# Altium integrated library adafruit.Library.IntLib: 666 symbols (part 2 of 6)
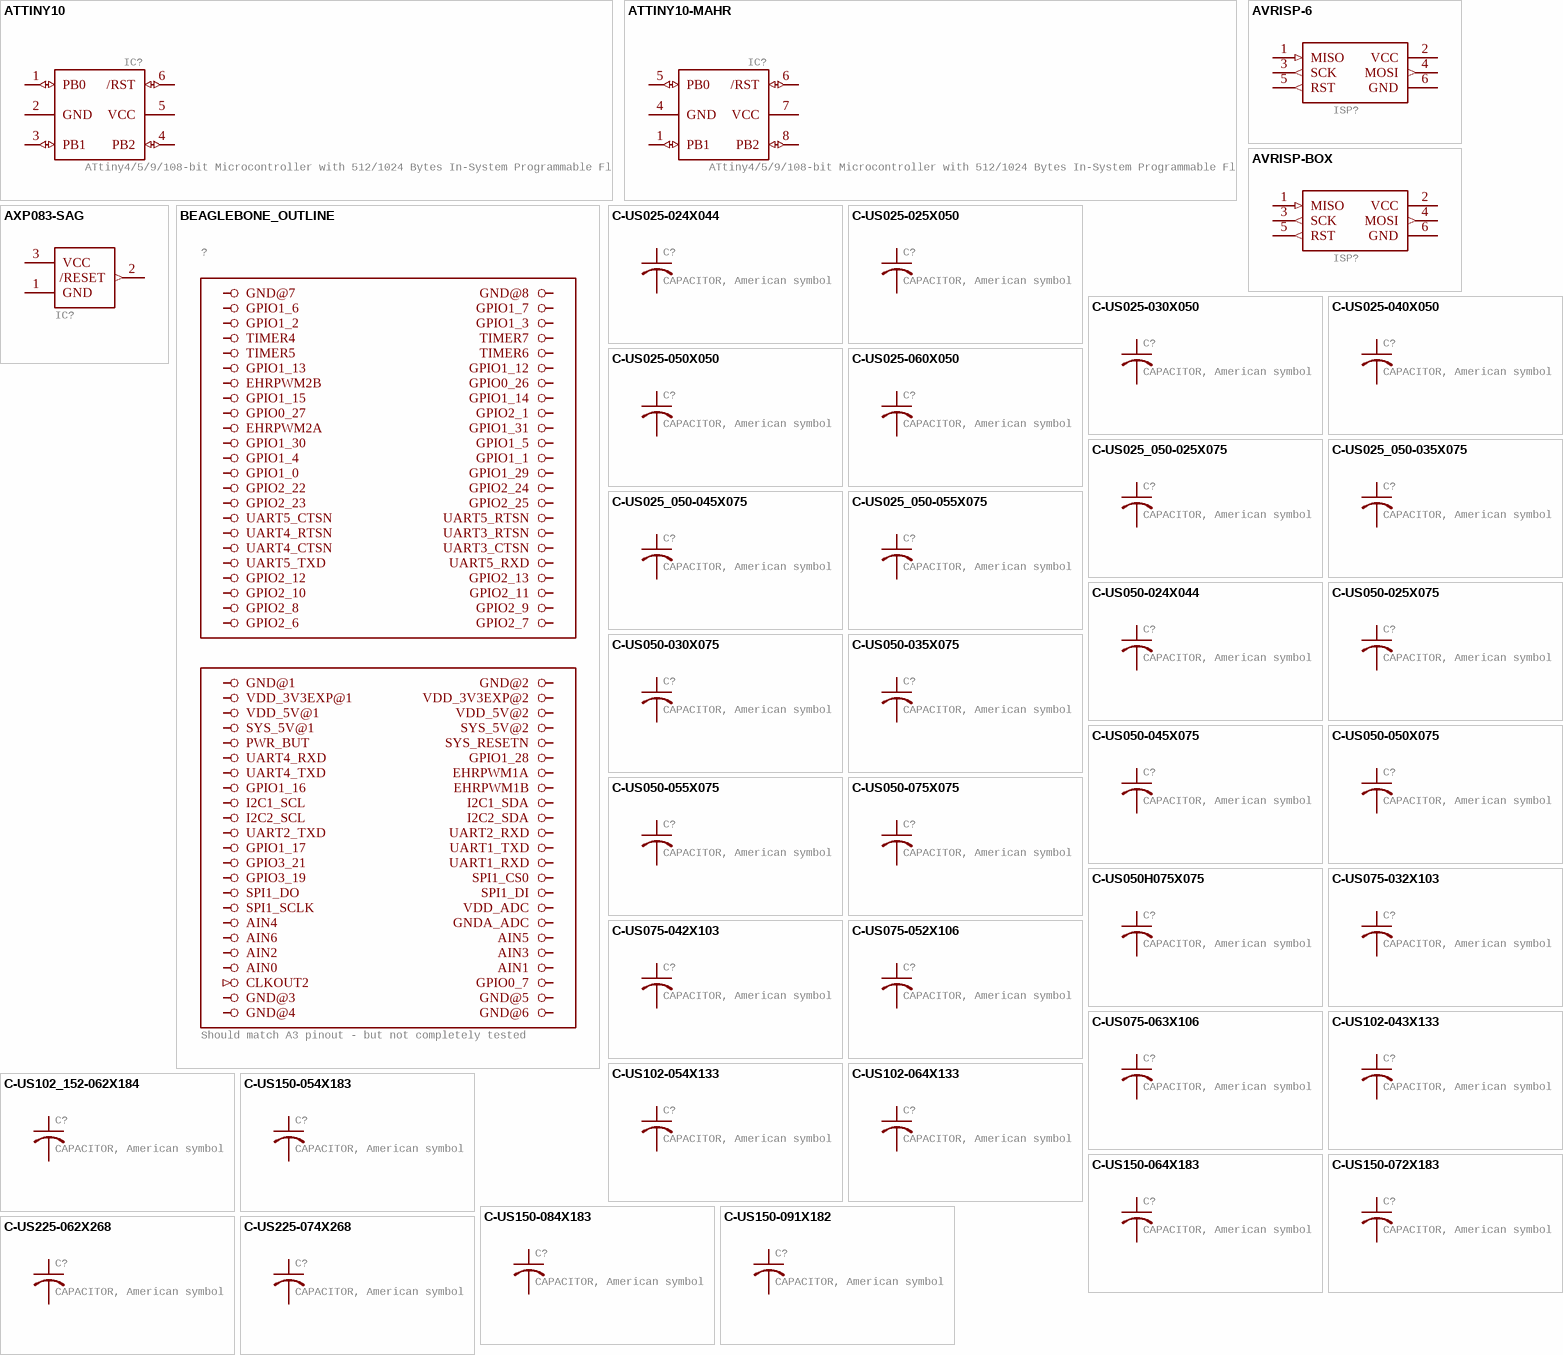
[diagram p28: symbols ATTINY10 to C-US225-074X268]

## C-US102-064X133
designator C?, comment CAPACITOR, American symbol
GateName_1: G$1; SymbolName_1: C-US; DeviceName: 102-064X133; LibraryName: adafruit; DeviceSetName: C-US; Package: C102-064X133
footprint C102-064X133
pins: 1, 2

## C-US102_152-062X184
designator C?, comment CAPACITOR, American symbol
GateName_1: G$1; SymbolName_1: C-US; DeviceName: 102_152-062X184; LibraryName: adafruit; DeviceSetName: C-US; Package: C102_152-062X184
footprint C102_152-062X184
pins: 1, 2

## C-US150-054X183
designator C?, comment CAPACITOR, American symbol
GateName_1: G$1; SymbolName_1: C-US; DeviceName: 150-054X183; LibraryName: adafruit; DeviceSetName: C-US; Package: C150-054X183
footprint C150-054X183
pins: 1, 2

## C-US150-064X183
designator C?, comment CAPACITOR, American symbol
GateName_1: G$1; SymbolName_1: C-US; DeviceName: 150-064X183; LibraryName: adafruit; DeviceSetName: C-US; Package: C150-064X183
footprint C150-064X183
pins: 1, 2

## C-US150-072X183
designator C?, comment CAPACITOR, American symbol
GateName_1: G$1; SymbolName_1: C-US; DeviceName: 150-072X183; LibraryName: adafruit; DeviceSetName: C-US; Package: C150-072X183
footprint C150-072X183
pins: 1, 2

## C-US150-084X183
designator C?, comment CAPACITOR, American symbol
GateName_1: G$1; SymbolName_1: C-US; DeviceName: 150-084X183; LibraryName: adafruit; DeviceSetName: C-US; Package: C150-084X183
footprint C150-084X183
pins: 1, 2

## C-US150-091X182
designator C?, comment CAPACITOR, American symbol
GateName_1: G$1; SymbolName_1: C-US; DeviceName: 150-091X182; LibraryName: adafruit; DeviceSetName: C-US; Package: C150-091X182
footprint C150-091X182
pins: 1, 2

## C-US225-062X268
designator C?, comment CAPACITOR, American symbol
GateName_1: G$1; SymbolName_1: C-US; DeviceName: 225-062X268; LibraryName: adafruit; DeviceSetName: C-US; Package: C225-062X268
footprint C225-062X268
pins: 1, 2

## C-US225-074X268
designator C?, comment CAPACITOR, American symbol
GateName_1: G$1; SymbolName_1: C-US; DeviceName: 225-074X268; LibraryName: adafruit; DeviceSetName: C-US; Package: C225-074X268
footprint C225-074X268
pins: 1, 2

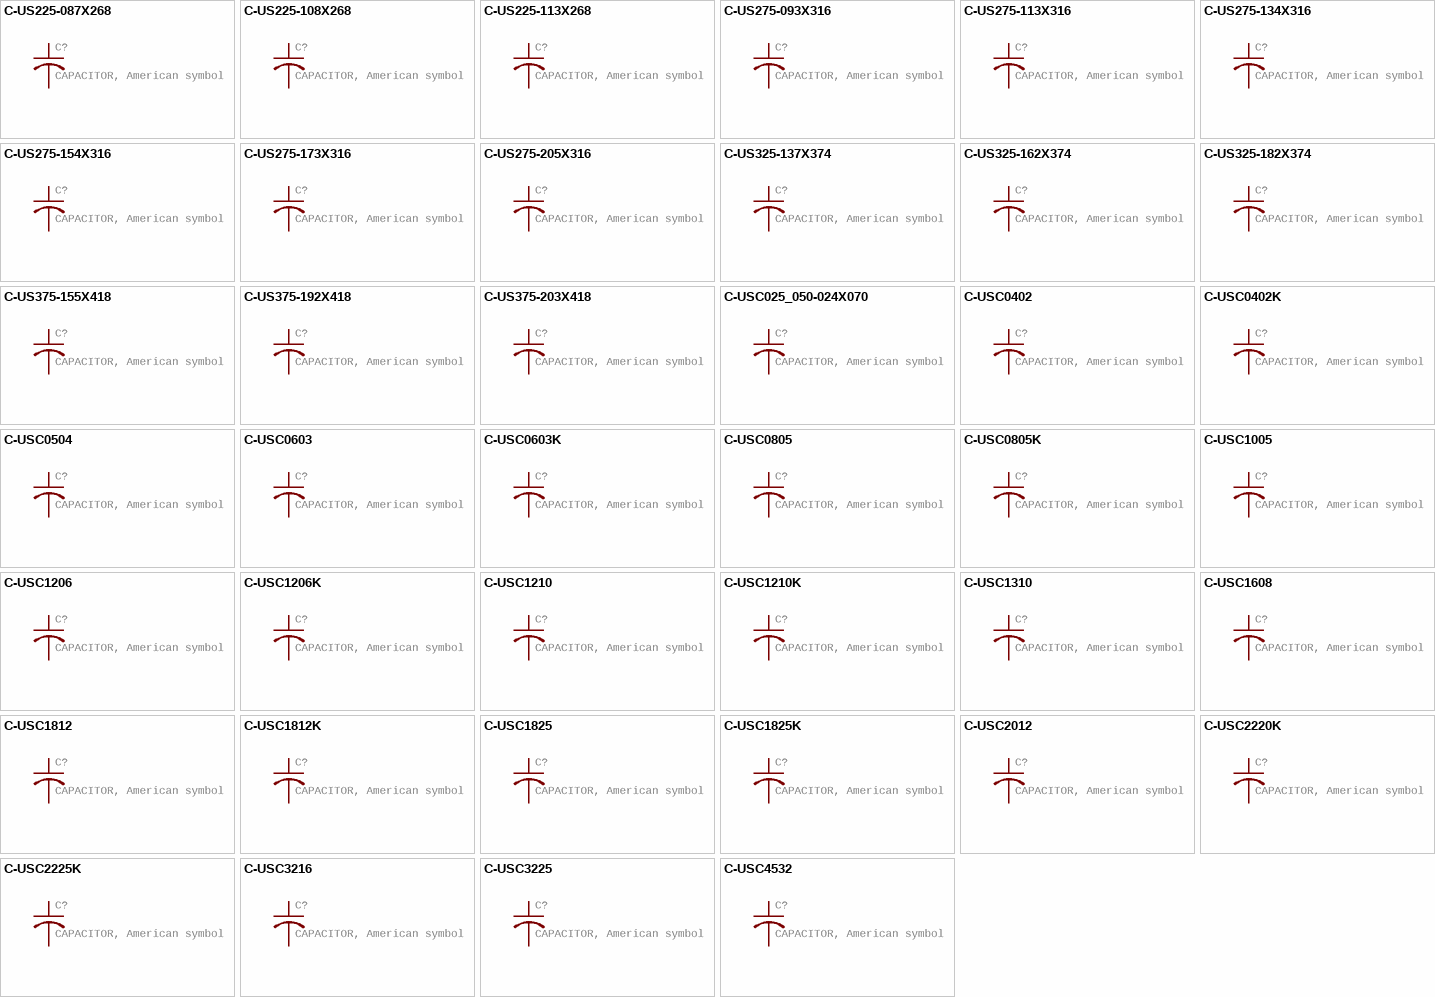
[diagram p9: symbols C-US225-087X268 to C-USC4532]

## C-US225-087X268
designator C?, comment CAPACITOR, American symbol
GateName_1: G$1; SymbolName_1: C-US; DeviceName: 225-087X268; LibraryName: adafruit; DeviceSetName: C-US; Package: C225-087X268
footprint C225-087X268
pins: 1, 2

## C-US225-108X268
designator C?, comment CAPACITOR, American symbol
GateName_1: G$1; SymbolName_1: C-US; DeviceName: 225-108X268; LibraryName: adafruit; DeviceSetName: C-US; Package: C225-108X268
footprint C225-108X268
pins: 1, 2

## C-US225-113X268
designator C?, comment CAPACITOR, American symbol
GateName_1: G$1; SymbolName_1: C-US; DeviceName: 225-113X268; LibraryName: adafruit; DeviceSetName: C-US; Package: C225-113X268
footprint C225-113X268
pins: 1, 2

## C-US275-093X316
designator C?, comment CAPACITOR, American symbol
GateName_1: G$1; SymbolName_1: C-US; DeviceName: 275-093X316; LibraryName: adafruit; DeviceSetName: C-US; Package: C275-093X316
footprint C275-093X316
pins: 1, 2

## C-US275-113X316
designator C?, comment CAPACITOR, American symbol
GateName_1: G$1; SymbolName_1: C-US; DeviceName: 275-113X316; LibraryName: adafruit; DeviceSetName: C-US; Package: C275-113X316
footprint C275-113X316
pins: 1, 2

## C-US275-134X316
designator C?, comment CAPACITOR, American symbol
GateName_1: G$1; SymbolName_1: C-US; DeviceName: 275-134X316; LibraryName: adafruit; DeviceSetName: C-US; Package: C275-134X316
footprint C275-134X316
pins: 1, 2

## C-US275-154X316
designator C?, comment CAPACITOR, American symbol
GateName_1: G$1; SymbolName_1: C-US; DeviceName: 275-154X316; LibraryName: adafruit; DeviceSetName: C-US; Package: C275-154X316
footprint C275-154X316
pins: 1, 2

## C-US275-173X316
designator C?, comment CAPACITOR, American symbol
GateName_1: G$1; SymbolName_1: C-US; DeviceName: 275-173X316; LibraryName: adafruit; DeviceSetName: C-US; Package: C275-173X316
footprint C275-173X316
pins: 1, 2

## C-US275-205X316
designator C?, comment CAPACITOR, American symbol
GateName_1: G$1; SymbolName_1: C-US; DeviceName: 275-205X316; LibraryName: adafruit; DeviceSetName: C-US; Package: C275-205X316
footprint C275-205X316
pins: 1, 2

## C-US325-137X374
designator C?, comment CAPACITOR, American symbol
GateName_1: G$1; SymbolName_1: C-US; DeviceName: 325-137X374; LibraryName: adafruit; DeviceSetName: C-US; Package: C325-137X374
footprint C325-137X374
pins: 1, 2

## C-US325-162X374
designator C?, comment CAPACITOR, American symbol
GateName_1: G$1; SymbolName_1: C-US; DeviceName: 325-162X374; LibraryName: adafruit; DeviceSetName: C-US; Package: C325-162X374
footprint C325-162X374
pins: 1, 2

## C-US325-182X374
designator C?, comment CAPACITOR, American symbol
GateName_1: G$1; SymbolName_1: C-US; DeviceName: 325-182X374; LibraryName: adafruit; DeviceSetName: C-US; Package: C325-182X374
footprint C325-182X374
pins: 1, 2

## C-US375-155X418
designator C?, comment CAPACITOR, American symbol
GateName_1: G$1; SymbolName_1: C-US; DeviceName: 375-155X418; LibraryName: adafruit; DeviceSetName: C-US; Package: C375-155X418
footprint C375-155X418
pins: 1, 2

## C-US375-192X418
designator C?, comment CAPACITOR, American symbol
GateName_1: G$1; SymbolName_1: C-US; DeviceName: 375-192X418; LibraryName: adafruit; DeviceSetName: C-US; Package: C375-192X418
footprint C375-192X418
pins: 1, 2

## C-US375-203X418
designator C?, comment CAPACITOR, American symbol
GateName_1: G$1; SymbolName_1: C-US; DeviceName: 375-203X418; LibraryName: adafruit; DeviceSetName: C-US; Package: C375-203X418
footprint C375-203X418
pins: 1, 2

## C-USC025_050-024X070
designator C?, comment CAPACITOR, American symbol
GateName_1: G$1; SymbolName_1: C-US; DeviceName: C025_050-024X070; LibraryName: adafruit; DeviceSetName: C-US; Package: C025_050-024X070
footprint C025_050-024X070
pins: 1, 2

## C-USC0402
designator C?, comment CAPACITOR, American symbol
GateName_1: G$1; SymbolName_1: C-US; DeviceName: C0402; LibraryName: adafruit; DeviceSetName: C-US; Package: C0402
footprint C0402
pins: 1, 2

## C-USC0402K
designator C?, comment CAPACITOR, American symbol
GateName_1: G$1; SymbolName_1: C-US; DeviceName: C0402K; LibraryName: adafruit; DeviceSetName: C-US; Package: C0402K
footprint C0402K
pins: 1, 2

## C-USC0504
designator C?, comment CAPACITOR, American symbol
GateName_1: G$1; SymbolName_1: C-US; DeviceName: C0504; LibraryName: adafruit; DeviceSetName: C-US; Package: C0504
footprint C0504
pins: 1, 2

## C-USC0603
designator C?, comment CAPACITOR, American symbol
GateName_1: G$1; SymbolName_1: C-US; DeviceName: C0603; LibraryName: adafruit; DeviceSetName: C-US; Package: C0603
footprint C0603
pins: 1, 2

## C-USC0603K
designator C?, comment CAPACITOR, American symbol
GateName_1: G$1; SymbolName_1: C-US; DeviceName: C0603K; LibraryName: adafruit; DeviceSetName: C-US; Package: C0603K
footprint C0603K
pins: 1, 2

## C-USC0805
designator C?, comment CAPACITOR, American symbol
GateName_1: G$1; SymbolName_1: C-US; DeviceName: C0805; LibraryName: adafruit; DeviceSetName: C-US; Package: C0805
footprint C0805
pins: 1, 2

## C-USC0805K
designator C?, comment CAPACITOR, American symbol
GateName_1: G$1; SymbolName_1: C-US; DeviceName: C0805K; LibraryName: adafruit; DeviceSetName: C-US; Package: C0805K
footprint C0805K
pins: 1, 2

## C-USC1005
designator C?, comment CAPACITOR, American symbol
GateName_1: G$1; SymbolName_1: C-US; DeviceName: C1005; LibraryName: adafruit; DeviceSetName: C-US; Package: C1005
footprint C1005
pins: 1, 2

## C-USC1206
designator C?, comment CAPACITOR, American symbol
GateName_1: G$1; SymbolName_1: C-US; DeviceName: C1206; LibraryName: adafruit; DeviceSetName: C-US; Package: C1206
footprint C1206
pins: 1, 2

## C-USC1206K
designator C?, comment CAPACITOR, American symbol
GateName_1: G$1; SymbolName_1: C-US; DeviceName: C1206K; LibraryName: adafruit; DeviceSetName: C-US; Package: C1206K
footprint C1206K
pins: 1, 2

## C-USC1210
designator C?, comment CAPACITOR, American symbol
GateName_1: G$1; SymbolName_1: C-US; DeviceName: C1210; LibraryName: adafruit; DeviceSetName: C-US; Package: C1210
footprint C1210
pins: 1, 2

## C-USC1210K
designator C?, comment CAPACITOR, American symbol
GateName_1: G$1; SymbolName_1: C-US; DeviceName: C1210K; LibraryName: adafruit; DeviceSetName: C-US; Package: C1210K
footprint C1210K
pins: 1, 2

## C-USC1310
designator C?, comment CAPACITOR, American symbol
GateName_1: G$1; SymbolName_1: C-US; DeviceName: C1310; LibraryName: adafruit; DeviceSetName: C-US; Package: C1310
footprint C1310
pins: 1, 2

## C-USC1608
designator C?, comment CAPACITOR, American symbol
GateName_1: G$1; SymbolName_1: C-US; DeviceName: C1608; LibraryName: adafruit; DeviceSetName: C-US; Package: C1608
footprint C1608
pins: 1, 2

## C-USC1812
designator C?, comment CAPACITOR, American symbol
GateName_1: G$1; SymbolName_1: C-US; DeviceName: C1812; LibraryName: adafruit; DeviceSetName: C-US; Package: C1812
footprint C1812
pins: 1, 2

## C-USC1812K
designator C?, comment CAPACITOR, American symbol
GateName_1: G$1; SymbolName_1: C-US; DeviceName: C1812K; LibraryName: adafruit; DeviceSetName: C-US; Package: C1812K
footprint C1812K
pins: 1, 2

## C-USC1825
designator C?, comment CAPACITOR, American symbol
GateName_1: G$1; SymbolName_1: C-US; DeviceName: C1825; LibraryName: adafruit; DeviceSetName: C-US; Package: C1825
footprint C1825
pins: 1, 2

## C-USC1825K
designator C?, comment CAPACITOR, American symbol
GateName_1: G$1; SymbolName_1: C-US; DeviceName: C1825K; LibraryName: adafruit; DeviceSetName: C-US; Package: C1825K
footprint C1825K
pins: 1, 2

## C-USC2012
designator C?, comment CAPACITOR, American symbol
GateName_1: G$1; SymbolName_1: C-US; DeviceName: C2012; LibraryName: adafruit; DeviceSetName: C-US; Package: C2012
footprint C2012
pins: 1, 2

## C-USC2220K
designator C?, comment CAPACITOR, American symbol
GateName_1: G$1; SymbolName_1: C-US; DeviceName: C2220K; LibraryName: adafruit; DeviceSetName: C-US; Package: C2220K
footprint C2220K
pins: 1, 2

## C-USC2225K
designator C?, comment CAPACITOR, American symbol
GateName_1: G$1; SymbolName_1: C-US; DeviceName: C2225K; LibraryName: adafruit; DeviceSetName: C-US; Package: C2225K
footprint C2225K
pins: 1, 2

## C-USC3216
designator C?, comment CAPACITOR, American symbol
GateName_1: G$1; SymbolName_1: C-US; DeviceName: C3216; LibraryName: adafruit; DeviceSetName: C-US; Package: C3216
footprint C3216
pins: 1, 2

## C-USC3225
designator C?, comment CAPACITOR, American symbol
GateName_1: G$1; SymbolName_1: C-US; DeviceName: C3225; LibraryName: adafruit; DeviceSetName: C-US; Package: C3225
footprint C3225
pins: 1, 2

## C-USC4532
designator C?, comment CAPACITOR, American symbol
GateName_1: G$1; SymbolName_1: C-US; DeviceName: C4532; LibraryName: adafruit; DeviceSetName: C-US; Package: C4532
footprint C4532
pins: 1, 2

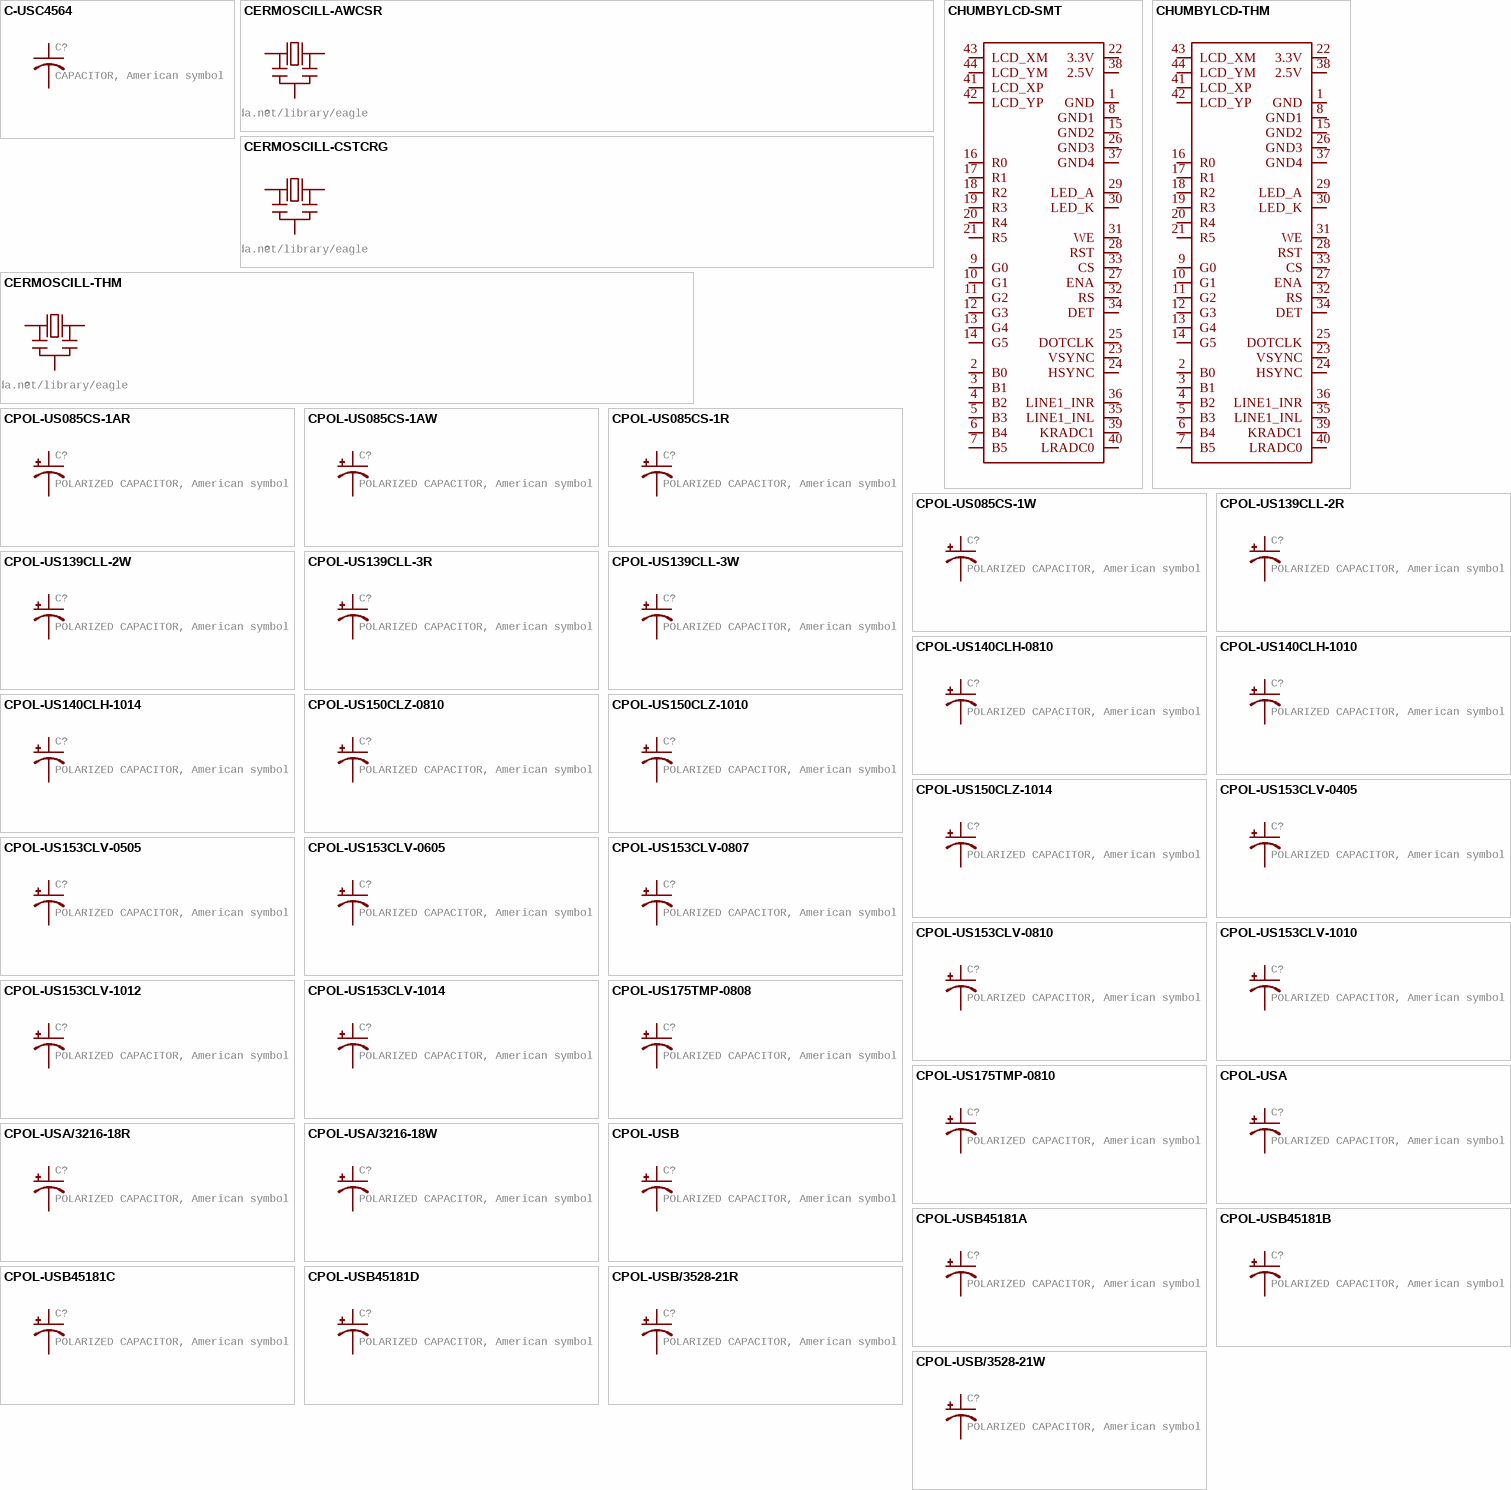
[diagram p10: symbols C-USC4564 to CPOL-USB/3528-21W]

## C-USC4564
designator C?, comment CAPACITOR, American symbol
GateName_1: G$1; SymbolName_1: C-US; DeviceName: C4564; LibraryName: adafruit; DeviceSetName: C-US; Package: C4564
footprint C4564
pins: 1, 2

## CERMOSCILL-AWCSR
designator ?, comment Ceramic oscillator with built in capacitors such as ZTT-12MHz    http://www.ladyada.net/library/eagle
GateName_1: G$1; SymbolName_1: CAPOSC; DeviceName: -AWCSR; DeviceSetName: CERMOSCILL; LibraryName: adafruit; Package: AWCSR
footprint AWCSR
pins: 1 IN (io), 2 GND (io), 3 OUT (io)

## CERMOSCILL-CSTCRG
designator ?, comment Ceramic oscillator with built in capacitors such as ZTT-12MHz    http://www.ladyada.net/library/eagle
GateName_1: G$1; SymbolName_1: CAPOSC; DeviceName: -CSTCRG; DeviceSetName: CERMOSCILL; LibraryName: adafruit; Package: CSTCR-G
footprint CSTCR-G
pins: 1 IN (io), 2 GND (io), 3 OUT (io)

## CERMOSCILL-THM
designator ?, comment Ceramic oscillator with built in capacitors such as ZTT-12MHz    http://www.ladyada.net/library/eagle
GateName_1: G$1; SymbolName_1: CAPOSC; DeviceName: -THM; DeviceSetName: CERMOSCILL; LibraryName: adafruit; Package: CERM_OSC
footprint CERM_OSC
pins: P$1 IN (io), P$2 GND (io), P$3 OUT (io)

## CHUMBYLCD-SMT
designator ?
GateName_1: G$1; SymbolName_1: CHUMBYVIDEO; DeviceName: -SMT; DeviceSetName: CHUMBYLCD; LibraryName: adafruit; Package: 2X22-SMT
footprint 2X22-SMT
pins: 1 GND (io), 2 B0 (io), 3 B1 (io), 4 B2 (io), 5 B3 (io), 6 B4 (io), 7 B5 (io), 8 GND1 (io), 9 G0 (io), 10 G1 (io), 11 G2 (io), 12 G3 (io), 13 G4 (io), 14 G5 (io), 15 GND2 (io), 16 R0 (io), 17 R1 (io), 18 R2 (io), 19 R3 (io), 20 R4 (io), 21 R5 (io), 22 3.3V (io), 23 VSYNC (io), 24 HSYNC (io), 25 DOTCLK (io), 26 GND3 (io), 27 ENA (io), 28 RST (io), 29 LED_A (io), 30 LED_K (io), 31 WE (io), 32 RS (io), 33 CS (io), 34 DET (io), 35 LINE1_INL (io), 36 LINE1_INR (io), 37 GND4 (io), 38 2.5V (io), 39 KRADC1 (io), 40 LRADC0 (io), 41 LCD_XP (io), 42 LCD_YP (io), 43 LCD_XM (io), 44 LCD_YM (io)

## CHUMBYLCD-THM
designator ?
GateName_1: G$1; SymbolName_1: CHUMBYVIDEO; DeviceName: -THM; DeviceSetName: CHUMBYLCD; LibraryName: adafruit; Package: 2X22
footprint 2X22
pins: 1 GND (io), 2 B0 (io), 3 B1 (io), 4 B2 (io), 5 B3 (io), 6 B4 (io), 7 B5 (io), 8 GND1 (io), 9 G0 (io), 10 G1 (io), 11 G2 (io), 12 G3 (io), 13 G4 (io), 14 G5 (io), 15 GND2 (io), 16 R0 (io), 17 R1 (io), 18 R2 (io), 19 R3 (io), 20 R4 (io), 21 R5 (io), 22 3.3V (io), 23 VSYNC (io), 24 HSYNC (io), 25 DOTCLK (io), 26 GND3 (io), 27 ENA (io), 28 RST (io), 29 LED_A (io), 30 LED_K (io), 31 WE (io), 32 RS (io), 33 CS (io), 34 DET (io), 35 LINE1_INL (io), 36 LINE1_INR (io), 37 GND4 (io), 38 2.5V (io), 39 KRADC1 (io), 40 LRADC0 (io), 41 LCD_XP (io), 42 LCD_YP (io), 43 LCD_XM (io), 44 LCD_YM (io)

## CPOL-US085CS-1AR
designator C?, comment POLARIZED CAPACITOR, American symbol
GateName_1: G$1; SymbolName_1: CPOL-US; DeviceName: 085CS-1AR; LibraryName: adafruit; DeviceSetName: CPOL-US; Package: 085CS_1AR
footprint 085CS_1AR
pins: +, -

## CPOL-US085CS-1AW
designator C?, comment POLARIZED CAPACITOR, American symbol
GateName_1: G$1; SymbolName_1: CPOL-US; DeviceName: 085CS-1AW; LibraryName: adafruit; DeviceSetName: CPOL-US; Package: 085CS_1AW
footprint 085CS_1AW
pins: +, -

## CPOL-US085CS-1R
designator C?, comment POLARIZED CAPACITOR, American symbol
GateName_1: G$1; SymbolName_1: CPOL-US; DeviceName: 085CS-1R; LibraryName: adafruit; DeviceSetName: CPOL-US; Package: 085CS_1R
footprint 085CS_1R
pins: +, -

## CPOL-US085CS-1W
designator C?, comment POLARIZED CAPACITOR, American symbol
GateName_1: G$1; SymbolName_1: CPOL-US; DeviceName: 085CS-1W; LibraryName: adafruit; DeviceSetName: CPOL-US; Package: 085CS_1W
footprint 085CS_1W
pins: +, -

## CPOL-US139CLL-2R
designator C?, comment POLARIZED CAPACITOR, American symbol
GateName_1: G$1; SymbolName_1: CPOL-US; DeviceName: 139CLL-2R; LibraryName: adafruit; DeviceSetName: CPOL-US; Package: 139CLL-2R
footprint 139CLL-2R
pins: +, -

## CPOL-US139CLL-2W
designator C?, comment POLARIZED CAPACITOR, American symbol
GateName_1: G$1; SymbolName_1: CPOL-US; DeviceName: 139CLL-2W; LibraryName: adafruit; DeviceSetName: CPOL-US; Package: 139CLL-2W
footprint 139CLL-2W
pins: +, -

## CPOL-US139CLL-3R
designator C?, comment POLARIZED CAPACITOR, American symbol
GateName_1: G$1; SymbolName_1: CPOL-US; DeviceName: 139CLL-3R; LibraryName: adafruit; DeviceSetName: CPOL-US; Package: 139CLL-3R
footprint 139CLL-3R
pins: +, -

## CPOL-US139CLL-3W
designator C?, comment POLARIZED CAPACITOR, American symbol
GateName_1: G$1; SymbolName_1: CPOL-US; DeviceName: 139CLL-3W; LibraryName: adafruit; DeviceSetName: CPOL-US; Package: 139CLL-3W
footprint 139CLL-3W
pins: +, -

## CPOL-US140CLH-0810
designator C?, comment POLARIZED CAPACITOR, American symbol
GateName_1: G$1; SymbolName_1: CPOL-US; DeviceName: 140CLH-0810; LibraryName: adafruit; DeviceSetName: CPOL-US; Package: 140CLH-0810
footprint 140CLH-0810
pins: +, -

## CPOL-US140CLH-1010
designator C?, comment POLARIZED CAPACITOR, American symbol
GateName_1: G$1; SymbolName_1: CPOL-US; DeviceName: 140CLH-1010; LibraryName: adafruit; DeviceSetName: CPOL-US; Package: 140CLH-1010
footprint 140CLH-1010
pins: +, -

## CPOL-US140CLH-1014
designator C?, comment POLARIZED CAPACITOR, American symbol
GateName_1: G$1; SymbolName_1: CPOL-US; DeviceName: 140CLH-1014; LibraryName: adafruit; DeviceSetName: CPOL-US; Package: 140CLH-1014
footprint 140CLH-1014
pins: +, -

## CPOL-US150CLZ-0810
designator C?, comment POLARIZED CAPACITOR, American symbol
GateName_1: G$1; SymbolName_1: CPOL-US; DeviceName: 150CLZ-0810; LibraryName: adafruit; DeviceSetName: CPOL-US; Package: 150CLZ-0810
footprint 150CLZ-0810
pins: +, -

## CPOL-US150CLZ-1010
designator C?, comment POLARIZED CAPACITOR, American symbol
GateName_1: G$1; SymbolName_1: CPOL-US; DeviceName: 150CLZ-1010; LibraryName: adafruit; DeviceSetName: CPOL-US; Package: 150CLZ-1010
footprint 150CLZ-1010
pins: +, -

## CPOL-US150CLZ-1014
designator C?, comment POLARIZED CAPACITOR, American symbol
GateName_1: G$1; SymbolName_1: CPOL-US; DeviceName: 150CLZ-1014; LibraryName: adafruit; DeviceSetName: CPOL-US; Package: 150CLZ-1014
footprint 150CLZ-1014
pins: +, -

## CPOL-US153CLV-0405
designator C?, comment POLARIZED CAPACITOR, American symbol
GateName_1: G$1; SymbolName_1: CPOL-US; DeviceName: 153CLV-0405; LibraryName: adafruit; DeviceSetName: CPOL-US; Package: 153CLV-0405
footprint 153CLV-0405
pins: +, -

## CPOL-US153CLV-0505
designator C?, comment POLARIZED CAPACITOR, American symbol
GateName_1: G$1; SymbolName_1: CPOL-US; DeviceName: 153CLV-0505; LibraryName: adafruit; DeviceSetName: CPOL-US; Package: 153CLV-0505
footprint 153CLV-0505
pins: +, -

## CPOL-US153CLV-0605
designator C?, comment POLARIZED CAPACITOR, American symbol
GateName_1: G$1; SymbolName_1: CPOL-US; DeviceName: 153CLV-0605; LibraryName: adafruit; DeviceSetName: CPOL-US; Package: 153CLV-0605
footprint 153CLV-0605
pins: +, -

## CPOL-US153CLV-0807
designator C?, comment POLARIZED CAPACITOR, American symbol
GateName_1: G$1; SymbolName_1: CPOL-US; DeviceName: 153CLV-0807; LibraryName: adafruit; DeviceSetName: CPOL-US; Package: 153CLV-0807
footprint 153CLV-0807
pins: +, -

## CPOL-US153CLV-0810
designator C?, comment POLARIZED CAPACITOR, American symbol
GateName_1: G$1; SymbolName_1: CPOL-US; DeviceName: 153CLV-0810; LibraryName: adafruit; DeviceSetName: CPOL-US; Package: 153CLV-0810
footprint 153CLV-0810
pins: +, -

## CPOL-US153CLV-1010
designator C?, comment POLARIZED CAPACITOR, American symbol
GateName_1: G$1; SymbolName_1: CPOL-US; DeviceName: 153CLV-1010; LibraryName: adafruit; DeviceSetName: CPOL-US; Package: 153CLV-1010
footprint 153CLV-1010
pins: +, -

## CPOL-US153CLV-1012
designator C?, comment POLARIZED CAPACITOR, American symbol
GateName_1: G$1; SymbolName_1: CPOL-US; DeviceName: 153CLV-1012; LibraryName: adafruit; DeviceSetName: CPOL-US; Package: 153CLV-1012
footprint 153CLV-1012
pins: +, -

## CPOL-US153CLV-1014
designator C?, comment POLARIZED CAPACITOR, American symbol
GateName_1: G$1; SymbolName_1: CPOL-US; DeviceName: 153CLV-1014; LibraryName: adafruit; DeviceSetName: CPOL-US; Package: 153CLV-1014
footprint 153CLV-1014
pins: +, -

## CPOL-US175TMP-0808
designator C?, comment POLARIZED CAPACITOR, American symbol
GateName_1: G$1; SymbolName_1: CPOL-US; DeviceName: 175TMP-0808; LibraryName: adafruit; DeviceSetName: CPOL-US; Package: 175TMP-0808
footprint 175TMP-0808
pins: +, -

## CPOL-US175TMP-0810
designator C?, comment POLARIZED CAPACITOR, American symbol
GateName_1: G$1; SymbolName_1: CPOL-US; DeviceName: 175TMP-0810; LibraryName: adafruit; DeviceSetName: CPOL-US; Package: 175TMP-0810
footprint 175TMP-0810
pins: +, -

## CPOL-USA
designator C?, comment POLARIZED CAPACITOR, American symbol
GateName_1: G$1; SymbolName_1: CPOL-US; DeviceName: A; LibraryName: adafruit; DeviceSetName: CPOL-US; Package: PANASONIC_A
footprint PANASONIC_A
pins: +, -

## CPOL-USA/3216-18R
designator C?, comment POLARIZED CAPACITOR, American symbol
GateName_1: G$1; SymbolName_1: CPOL-US; DeviceName: A/3216-18R; LibraryName: adafruit; DeviceSetName: CPOL-US; Package: A/3216-18R
footprint A/3216-18R
pins: +, -

## CPOL-USA/3216-18W
designator C?, comment POLARIZED CAPACITOR, American symbol
GateName_1: G$1; SymbolName_1: CPOL-US; DeviceName: A/3216-18W; LibraryName: adafruit; DeviceSetName: CPOL-US; Package: A/3216-18W
footprint A/3216-18W
pins: +, -

## CPOL-USB
designator C?, comment POLARIZED CAPACITOR, American symbol
GateName_1: G$1; SymbolName_1: CPOL-US; DeviceName: B; LibraryName: adafruit; DeviceSetName: CPOL-US; Package: PANASONIC_B
footprint PANASONIC_B
pins: +, -

## CPOL-USB45181A
designator C?, comment POLARIZED CAPACITOR, American symbol
GateName_1: G$1; SymbolName_1: CPOL-US; DeviceName: B45181A; LibraryName: adafruit; DeviceSetName: CPOL-US; Package: B45181A
footprint B45181A
pins: +, -

## CPOL-USB45181B
designator C?, comment POLARIZED CAPACITOR, American symbol
GateName_1: G$1; SymbolName_1: CPOL-US; DeviceName: B45181B; LibraryName: adafruit; DeviceSetName: CPOL-US; Package: B45181B
footprint B45181B
pins: +, -

## CPOL-USB45181C
designator C?, comment POLARIZED CAPACITOR, American symbol
GateName_1: G$1; SymbolName_1: CPOL-US; DeviceName: B45181C; LibraryName: adafruit; DeviceSetName: CPOL-US; Package: B45181C
footprint B45181C
pins: +, -

## CPOL-USB45181D
designator C?, comment POLARIZED CAPACITOR, American symbol
GateName_1: G$1; SymbolName_1: CPOL-US; DeviceName: B45181D; LibraryName: adafruit; DeviceSetName: CPOL-US; Package: B45181D
footprint B45181D
pins: +, -

## CPOL-USB/3528-21R
designator C?, comment POLARIZED CAPACITOR, American symbol
GateName_1: G$1; SymbolName_1: CPOL-US; DeviceName: B/3528-21R; LibraryName: adafruit; DeviceSetName: CPOL-US; Package: B/3528-21R
footprint B/3528-21R
pins: +, -

## CPOL-USB/3528-21W
designator C?, comment POLARIZED CAPACITOR, American symbol
GateName_1: G$1; SymbolName_1: CPOL-US; DeviceName: B/3528-21W; LibraryName: adafruit; DeviceSetName: CPOL-US; Package: B/3528-21W
footprint B/3528-21W
pins: +, -

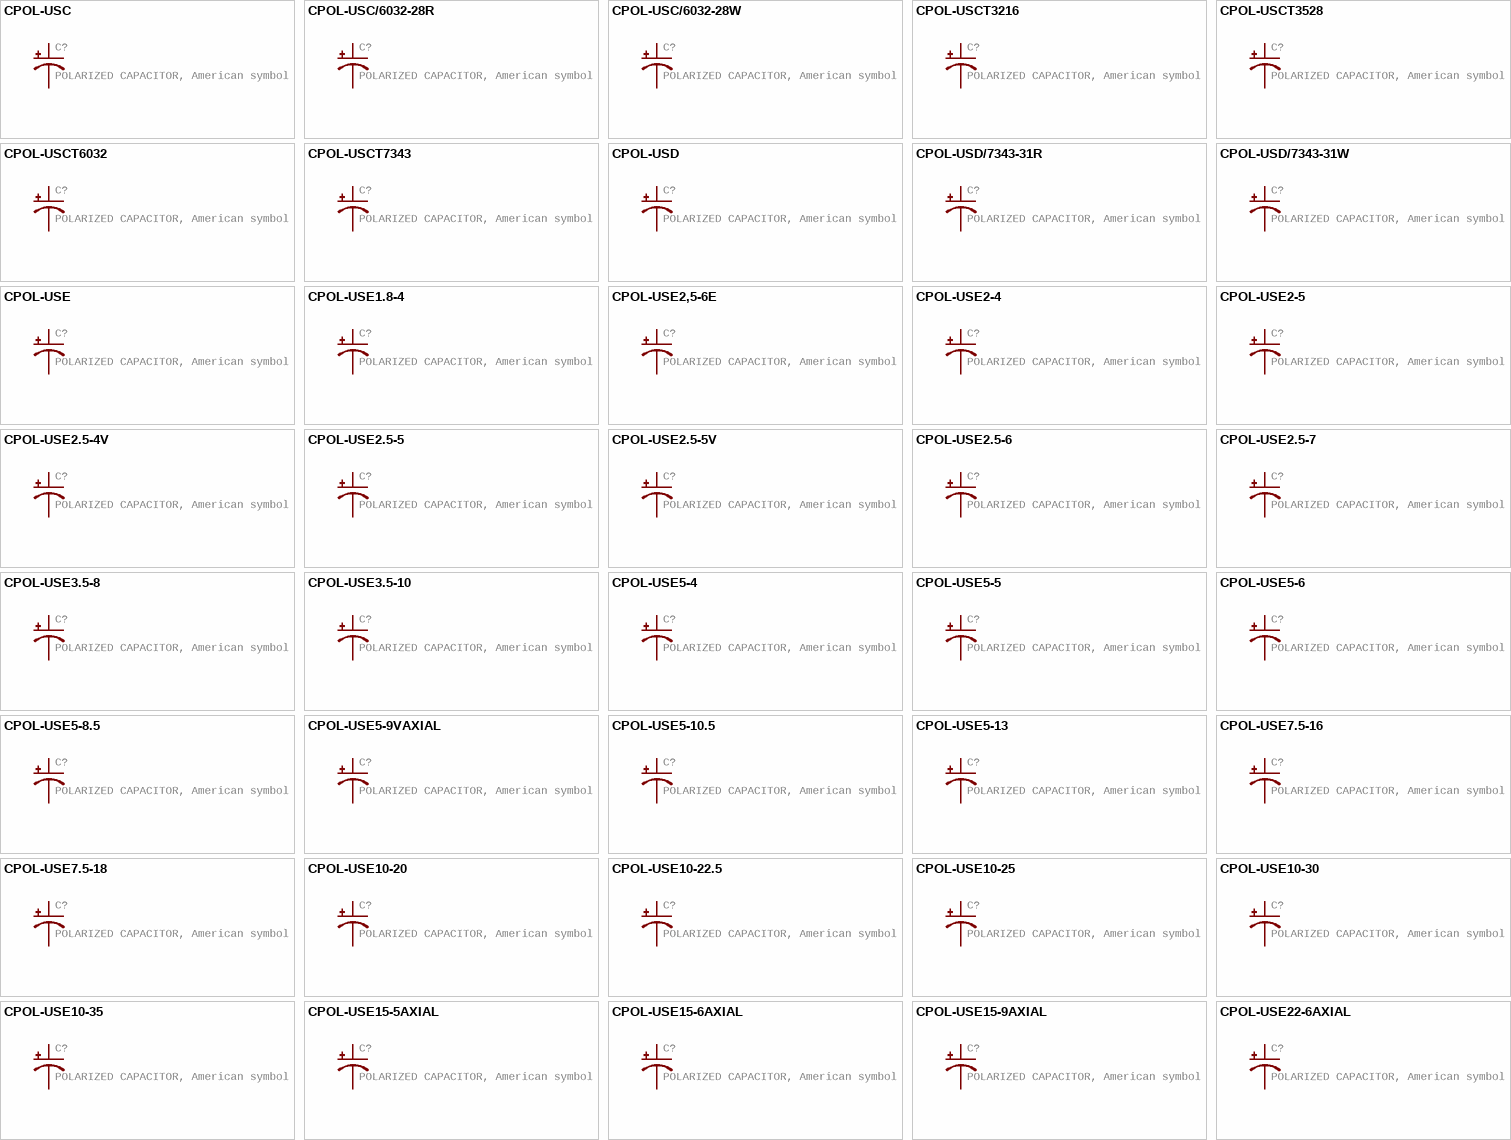
[diagram p11: symbols CPOL-USC to CPOL-USE22-6AXIAL]

## CPOL-USC
designator C?, comment POLARIZED CAPACITOR, American symbol
GateName_1: G$1; SymbolName_1: CPOL-US; DeviceName: C; LibraryName: adafruit; DeviceSetName: CPOL-US; Package: PANASONIC_C
footprint PANASONIC_C
pins: +, -

## CPOL-USC/6032-28R
designator C?, comment POLARIZED CAPACITOR, American symbol
GateName_1: G$1; SymbolName_1: CPOL-US; DeviceName: C/6032-28R; LibraryName: adafruit; DeviceSetName: CPOL-US; Package: C/6032-28R
footprint C/6032-28R
pins: +, -

## CPOL-USC/6032-28W
designator C?, comment POLARIZED CAPACITOR, American symbol
GateName_1: G$1; SymbolName_1: CPOL-US; DeviceName: C/6032-28W; LibraryName: adafruit; DeviceSetName: CPOL-US; Package: C/6032-28W
footprint C/6032-28W
pins: +, -

## CPOL-USCT3216
designator C?, comment POLARIZED CAPACITOR, American symbol
GateName_1: G$1; SymbolName_1: CPOL-US; DeviceName: CT3216; LibraryName: adafruit; DeviceSetName: CPOL-US; Package: CT3216
footprint CT3216
pins: +, -

## CPOL-USCT3528
designator C?, comment POLARIZED CAPACITOR, American symbol
GateName_1: G$1; SymbolName_1: CPOL-US; DeviceName: CT3528; LibraryName: adafruit; DeviceSetName: CPOL-US; Package: CT3528
footprint CT3528
pins: +, -

## CPOL-USCT6032
designator C?, comment POLARIZED CAPACITOR, American symbol
GateName_1: G$1; SymbolName_1: CPOL-US; DeviceName: CT6032; LibraryName: adafruit; DeviceSetName: CPOL-US; Package: CT6032
footprint CT6032
pins: +, -

## CPOL-USCT7343
designator C?, comment POLARIZED CAPACITOR, American symbol
GateName_1: G$1; SymbolName_1: CPOL-US; DeviceName: CT7343; LibraryName: adafruit; DeviceSetName: CPOL-US; Package: CT7343
footprint CT7343
pins: +, -

## CPOL-USD
designator C?, comment POLARIZED CAPACITOR, American symbol
GateName_1: G$1; SymbolName_1: CPOL-US; DeviceName: D; LibraryName: adafruit; DeviceSetName: CPOL-US; Package: PANASONIC_D
footprint PANASONIC_D
pins: +, -

## CPOL-USD/7343-31R
designator C?, comment POLARIZED CAPACITOR, American symbol
GateName_1: G$1; SymbolName_1: CPOL-US; DeviceName: D/7343-31R; LibraryName: adafruit; DeviceSetName: CPOL-US; Package: D/7343-31R
footprint D/7343-31R
pins: +, -

## CPOL-USD/7343-31W
designator C?, comment POLARIZED CAPACITOR, American symbol
GateName_1: G$1; SymbolName_1: CPOL-US; DeviceName: D/7343-31W; LibraryName: adafruit; DeviceSetName: CPOL-US; Package: D/7343-31W
footprint D/7343-31W
pins: +, -

## CPOL-USE
designator C?, comment POLARIZED CAPACITOR, American symbol
GateName_1: G$1; SymbolName_1: CPOL-US; DeviceName: E; LibraryName: adafruit; DeviceSetName: CPOL-US; Package: PANASONIC_E
footprint PANASONIC_E
pins: +, -

## CPOL-USE1.8-4
designator C?, comment POLARIZED CAPACITOR, American symbol
GateName_1: G$1; SymbolName_1: CPOL-US; DeviceName: E1.8-4; LibraryName: adafruit; DeviceSetName: CPOL-US; Package: E1,8-4
footprint E1,8-4
pins: +, -

## CPOL-USE2,5-6E
designator C?, comment POLARIZED CAPACITOR, American symbol
GateName_1: G$1; SymbolName_1: CPOL-US; DeviceName: E2,5-6E; LibraryName: adafruit; DeviceSetName: CPOL-US; Package: E2,5-6E
footprint E2,5-6E
pins: +, -

## CPOL-USE2-4
designator C?, comment POLARIZED CAPACITOR, American symbol
GateName_1: G$1; SymbolName_1: CPOL-US; DeviceName: E2-4; LibraryName: adafruit; DeviceSetName: CPOL-US; Package: E2-4
footprint E2-4
pins: +, -

## CPOL-USE2-5
designator C?, comment POLARIZED CAPACITOR, American symbol
GateName_1: G$1; SymbolName_1: CPOL-US; DeviceName: E2-5; LibraryName: adafruit; DeviceSetName: CPOL-US; Package: E2-5
footprint E2-5
pins: +, -

## CPOL-USE2.5-4V
designator C?, comment POLARIZED CAPACITOR, American symbol
GateName_1: G$1; SymbolName_1: CPOL-US; DeviceName: E2.5-4V; LibraryName: adafruit; DeviceSetName: CPOL-US; Package: E2,5RE
footprint E2,5RE
pins: +, -

## CPOL-USE2.5-5
designator C?, comment POLARIZED CAPACITOR, American symbol
GateName_1: G$1; SymbolName_1: CPOL-US; DeviceName: E2.5-5; LibraryName: adafruit; DeviceSetName: CPOL-US; Package: E2,5-5
footprint E2,5-5
pins: +, -

## CPOL-USE2.5-5V
designator C?, comment POLARIZED CAPACITOR, American symbol
GateName_1: G$1; SymbolName_1: CPOL-US; DeviceName: E2.5-5V; LibraryName: adafruit; DeviceSetName: CPOL-US; Package: E2,5-4R
footprint E2,5-4R
pins: +, -

## CPOL-USE2.5-6
designator C?, comment POLARIZED CAPACITOR, American symbol
GateName_1: G$1; SymbolName_1: CPOL-US; DeviceName: E2.5-6; LibraryName: adafruit; DeviceSetName: CPOL-US; Package: E2,5-6
footprint E2,5-6
pins: +, -

## CPOL-USE2.5-7
designator C?, comment POLARIZED CAPACITOR, American symbol
GateName_1: G$1; SymbolName_1: CPOL-US; DeviceName: E2.5-7; LibraryName: adafruit; DeviceSetName: CPOL-US; Package: E2,5-7
footprint E2,5-7
pins: +, -

## CPOL-USE3.5-8
designator C?, comment POLARIZED CAPACITOR, American symbol
GateName_1: G$1; SymbolName_1: CPOL-US; DeviceName: E3.5-8; LibraryName: adafruit; DeviceSetName: CPOL-US; Package: E3,5-8
footprint E3,5-8
pins: +, -

## CPOL-USE3.5-10
designator C?, comment POLARIZED CAPACITOR, American symbol
GateName_1: G$1; SymbolName_1: CPOL-US; DeviceName: E3.5-10; LibraryName: adafruit; DeviceSetName: CPOL-US; Package: E3,5-10
footprint E3,5-10
pins: +, -

## CPOL-USE5-4
designator C?, comment POLARIZED CAPACITOR, American symbol
GateName_1: G$1; SymbolName_1: CPOL-US; DeviceName: E5-4; LibraryName: adafruit; DeviceSetName: CPOL-US; Package: E5-4
footprint E5-4
pins: +, -

## CPOL-USE5-5
designator C?, comment POLARIZED CAPACITOR, American symbol
GateName_1: G$1; SymbolName_1: CPOL-US; DeviceName: E5-5; LibraryName: adafruit; DeviceSetName: CPOL-US; Package: E5-5
footprint E5-5
pins: +, -

## CPOL-USE5-6
designator C?, comment POLARIZED CAPACITOR, American symbol
GateName_1: G$1; SymbolName_1: CPOL-US; DeviceName: E5-6; LibraryName: adafruit; DeviceSetName: CPOL-US; Package: E5-6
footprint E5-6
pins: +, -

## CPOL-USE5-8.5
designator C?, comment POLARIZED CAPACITOR, American symbol
GateName_1: G$1; SymbolName_1: CPOL-US; DeviceName: E5-8.5; LibraryName: adafruit; DeviceSetName: CPOL-US; Package: E5-8,5
footprint E5-8,5
pins: +, -

## CPOL-USE5-9VAXIAL
designator C?, comment POLARIZED CAPACITOR, American symbol
GateName_1: G$1; SymbolName_1: CPOL-US; DeviceName: E5-9VAXIAL; LibraryName: adafruit; DeviceSetName: CPOL-US; Package: E5R
footprint E5R
pins: +, -

## CPOL-USE5-10.5
designator C?, comment POLARIZED CAPACITOR, American symbol
GateName_1: G$1; SymbolName_1: CPOL-US; DeviceName: E5-10.5; LibraryName: adafruit; DeviceSetName: CPOL-US; Package: E5-10,5
footprint E5-10,5
pins: +, -

## CPOL-USE5-13
designator C?, comment POLARIZED CAPACITOR, American symbol
GateName_1: G$1; SymbolName_1: CPOL-US; DeviceName: E5-13; LibraryName: adafruit; DeviceSetName: CPOL-US; Package: E5-13
footprint E5-13
pins: +, -

## CPOL-USE7.5-16
designator C?, comment POLARIZED CAPACITOR, American symbol
GateName_1: G$1; SymbolName_1: CPOL-US; DeviceName: E7.5-16; LibraryName: adafruit; DeviceSetName: CPOL-US; Package: E7,5-16
footprint E7,5-16
pins: +, -

## CPOL-USE7.5-18
designator C?, comment POLARIZED CAPACITOR, American symbol
GateName_1: G$1; SymbolName_1: CPOL-US; DeviceName: E7.5-18; LibraryName: adafruit; DeviceSetName: CPOL-US; Package: E7,5-18
footprint E7,5-18
pins: +, -

## CPOL-USE10-20
designator C?, comment POLARIZED CAPACITOR, American symbol
GateName_1: G$1; SymbolName_1: CPOL-US; DeviceName: E10-20; LibraryName: adafruit; DeviceSetName: CPOL-US; Package: EB20D
footprint EB20D
pins: +, -

## CPOL-USE10-22.5
designator C?, comment POLARIZED CAPACITOR, American symbol
GateName_1: G$1; SymbolName_1: CPOL-US; DeviceName: E10-22.5; LibraryName: adafruit; DeviceSetName: CPOL-US; Package: EB22,5D
footprint EB22,5D
pins: +, -

## CPOL-USE10-25
designator C?, comment POLARIZED CAPACITOR, American symbol
GateName_1: G$1; SymbolName_1: CPOL-US; DeviceName: E10-25; LibraryName: adafruit; DeviceSetName: CPOL-US; Package: EB25D
footprint EB25D
pins: +, -

## CPOL-USE10-30
designator C?, comment POLARIZED CAPACITOR, American symbol
GateName_1: G$1; SymbolName_1: CPOL-US; DeviceName: E10-30; LibraryName: adafruit; DeviceSetName: CPOL-US; Package: EB30D
footprint EB30D
pins: +, -

## CPOL-USE10-35
designator C?, comment POLARIZED CAPACITOR, American symbol
GateName_1: G$1; SymbolName_1: CPOL-US; DeviceName: E10-35; LibraryName: adafruit; DeviceSetName: CPOL-US; Package: EB35D
footprint EB35D
pins: +, -

## CPOL-USE15-5AXIAL
designator C?, comment POLARIZED CAPACITOR, American symbol
GateName_1: G$1; SymbolName_1: CPOL-US; DeviceName: E15-5AXIAL; LibraryName: adafruit; DeviceSetName: CPOL-US; Package: E15-5
footprint E15-5
pins: +, -

## CPOL-USE15-6AXIAL
designator C?, comment POLARIZED CAPACITOR, American symbol
GateName_1: G$1; SymbolName_1: CPOL-US; DeviceName: E15-6AXIAL; LibraryName: adafruit; DeviceSetName: CPOL-US; Package: E15-6
footprint E15-6
pins: +, -

## CPOL-USE15-9AXIAL
designator C?, comment POLARIZED CAPACITOR, American symbol
GateName_1: G$1; SymbolName_1: CPOL-US; DeviceName: E15-9AXIAL; LibraryName: adafruit; DeviceSetName: CPOL-US; Package: E15-9
footprint E15-9
pins: +, -

## CPOL-USE22-6AXIAL
designator C?, comment POLARIZED CAPACITOR, American symbol
GateName_1: G$1; SymbolName_1: CPOL-US; DeviceName: E22-6AXIAL; LibraryName: adafruit; DeviceSetName: CPOL-US; Package: E22-6
footprint E22-6
pins: +, -

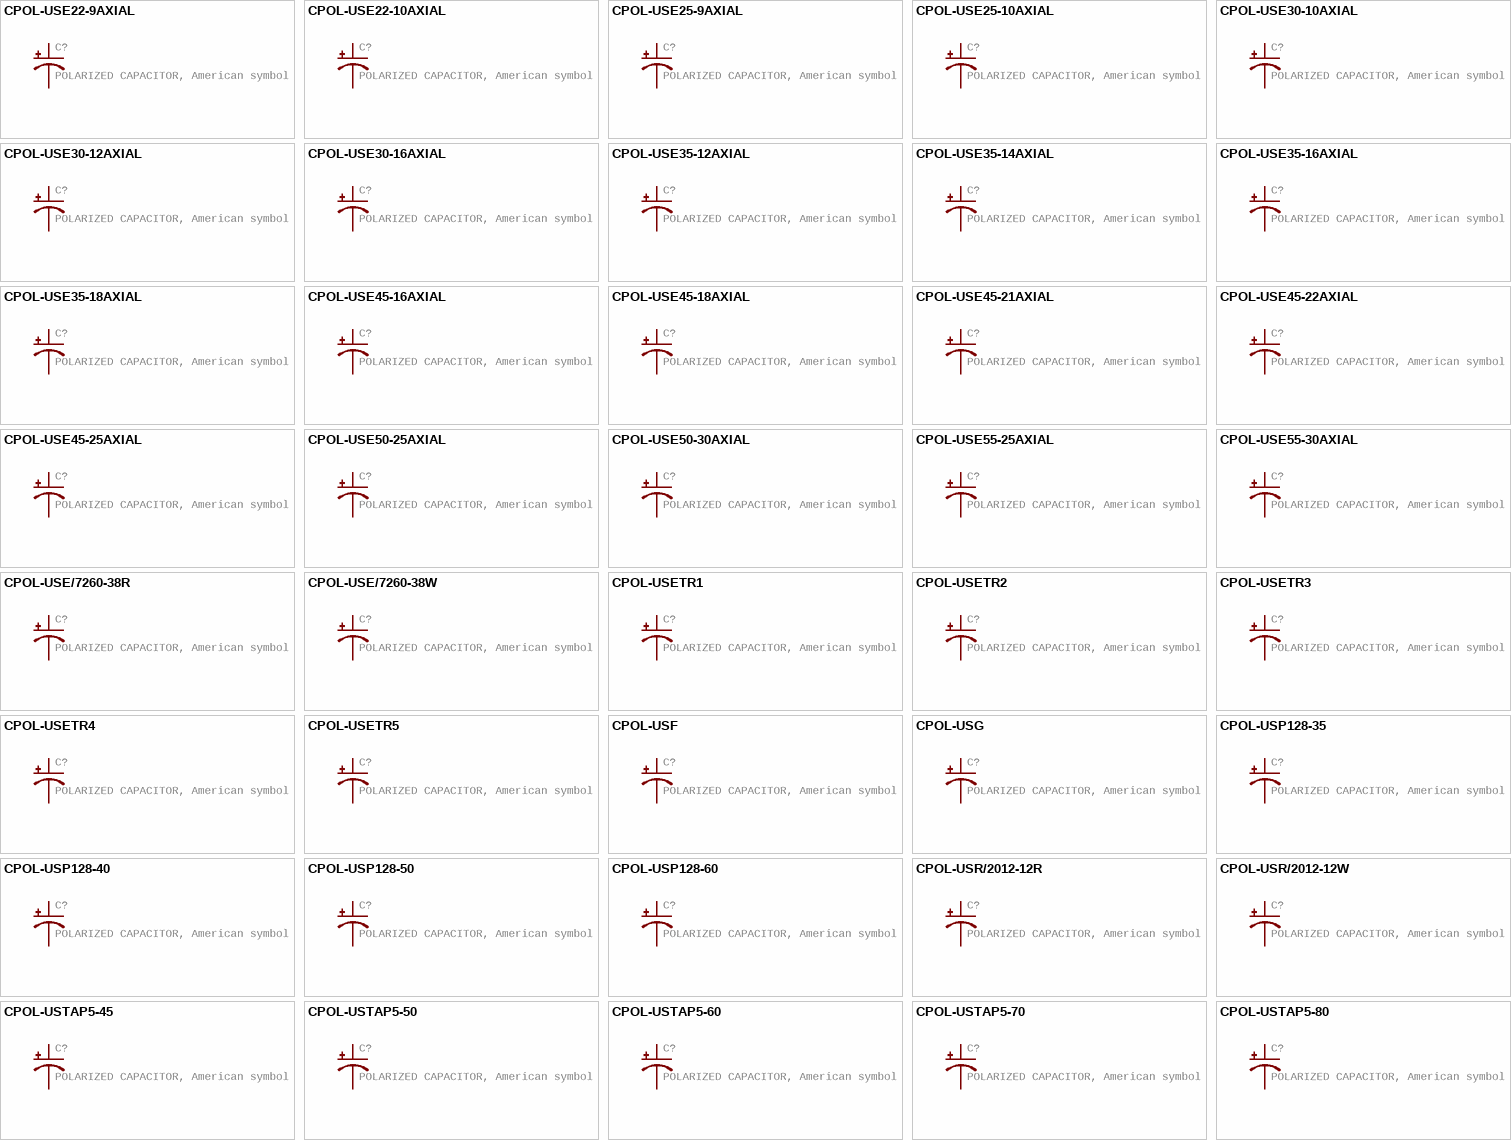
[diagram p12: symbols CPOL-USE22-9AXIAL to CPOL-USTAP5-80]

## CPOL-USE22-9AXIAL
designator C?, comment POLARIZED CAPACITOR, American symbol
GateName_1: G$1; SymbolName_1: CPOL-US; DeviceName: E22-9AXIAL; LibraryName: adafruit; DeviceSetName: CPOL-US; Package: E22-9
footprint E22-9
pins: +, -

## CPOL-USE22-10AXIAL
designator C?, comment POLARIZED CAPACITOR, American symbol
GateName_1: G$1; SymbolName_1: CPOL-US; DeviceName: E22-10AXIAL; LibraryName: adafruit; DeviceSetName: CPOL-US; Package: E22-10
footprint E22-10
pins: +, -

## CPOL-USE25-9AXIAL
designator C?, comment POLARIZED CAPACITOR, American symbol
GateName_1: G$1; SymbolName_1: CPOL-US; DeviceName: E25-9AXIAL; LibraryName: adafruit; DeviceSetName: CPOL-US; Package: E25-9
footprint E25-9
pins: +, -

## CPOL-USE25-10AXIAL
designator C?, comment POLARIZED CAPACITOR, American symbol
GateName_1: G$1; SymbolName_1: CPOL-US; DeviceName: E25-10AXIAL; LibraryName: adafruit; DeviceSetName: CPOL-US; Package: E25-10
footprint E25-10
pins: +, -

## CPOL-USE30-10AXIAL
designator C?, comment POLARIZED CAPACITOR, American symbol
GateName_1: G$1; SymbolName_1: CPOL-US; DeviceName: E30-10AXIAL; LibraryName: adafruit; DeviceSetName: CPOL-US; Package: E30-10
footprint E30-10
pins: +, -

## CPOL-USE30-12AXIAL
designator C?, comment POLARIZED CAPACITOR, American symbol
GateName_1: G$1; SymbolName_1: CPOL-US; DeviceName: E30-12AXIAL; LibraryName: adafruit; DeviceSetName: CPOL-US; Package: E30-12
footprint E30-12
pins: +, -

## CPOL-USE30-16AXIAL
designator C?, comment POLARIZED CAPACITOR, American symbol
GateName_1: G$1; SymbolName_1: CPOL-US; DeviceName: E30-16AXIAL; LibraryName: adafruit; DeviceSetName: CPOL-US; Package: E30-16
footprint E30-16
pins: +, -

## CPOL-USE35-12AXIAL
designator C?, comment POLARIZED CAPACITOR, American symbol
GateName_1: G$1; SymbolName_1: CPOL-US; DeviceName: E35-12AXIAL; LibraryName: adafruit; DeviceSetName: CPOL-US; Package: E35-12
footprint E35-12
pins: +, -

## CPOL-USE35-14AXIAL
designator C?, comment POLARIZED CAPACITOR, American symbol
GateName_1: G$1; SymbolName_1: CPOL-US; DeviceName: E35-14AXIAL; LibraryName: adafruit; DeviceSetName: CPOL-US; Package: E35-14
footprint E35-14
pins: +, -

## CPOL-USE35-16AXIAL
designator C?, comment POLARIZED CAPACITOR, American symbol
GateName_1: G$1; SymbolName_1: CPOL-US; DeviceName: E35-16AXIAL; LibraryName: adafruit; DeviceSetName: CPOL-US; Package: E35-16
footprint E35-16
pins: +, -

## CPOL-USE35-18AXIAL
designator C?, comment POLARIZED CAPACITOR, American symbol
GateName_1: G$1; SymbolName_1: CPOL-US; DeviceName: E35-18AXIAL; LibraryName: adafruit; DeviceSetName: CPOL-US; Package: E35-18
footprint E35-18
pins: +, -

## CPOL-USE45-16AXIAL
designator C?, comment POLARIZED CAPACITOR, American symbol
GateName_1: G$1; SymbolName_1: CPOL-US; DeviceName: E45-16AXIAL; LibraryName: adafruit; DeviceSetName: CPOL-US; Package: E45-16
footprint E45-16
pins: +, -

## CPOL-USE45-18AXIAL
designator C?, comment POLARIZED CAPACITOR, American symbol
GateName_1: G$1; SymbolName_1: CPOL-US; DeviceName: E45-18AXIAL; LibraryName: adafruit; DeviceSetName: CPOL-US; Package: E45-18
footprint E45-18
pins: +, -

## CPOL-USE45-21AXIAL
designator C?, comment POLARIZED CAPACITOR, American symbol
GateName_1: G$1; SymbolName_1: CPOL-US; DeviceName: E45-21AXIAL; LibraryName: adafruit; DeviceSetName: CPOL-US; Package: E45-21
footprint E45-21
pins: +, -

## CPOL-USE45-22AXIAL
designator C?, comment POLARIZED CAPACITOR, American symbol
GateName_1: G$1; SymbolName_1: CPOL-US; DeviceName: E45-22AXIAL; LibraryName: adafruit; DeviceSetName: CPOL-US; Package: E45-22
footprint E45-22
pins: +, -

## CPOL-USE45-25AXIAL
designator C?, comment POLARIZED CAPACITOR, American symbol
GateName_1: G$1; SymbolName_1: CPOL-US; DeviceName: E45-25AXIAL; LibraryName: adafruit; DeviceSetName: CPOL-US; Package: E45-25
footprint E45-25
pins: +, -

## CPOL-USE50-25AXIAL
designator C?, comment POLARIZED CAPACITOR, American symbol
GateName_1: G$1; SymbolName_1: CPOL-US; DeviceName: E50-25AXIAL; LibraryName: adafruit; DeviceSetName: CPOL-US; Package: E50-25
footprint E50-25
pins: +, -

## CPOL-USE50-30AXIAL
designator C?, comment POLARIZED CAPACITOR, American symbol
GateName_1: G$1; SymbolName_1: CPOL-US; DeviceName: E50-30AXIAL; LibraryName: adafruit; DeviceSetName: CPOL-US; Package: E50-30
footprint E50-30
pins: +, -

## CPOL-USE55-25AXIAL
designator C?, comment POLARIZED CAPACITOR, American symbol
GateName_1: G$1; SymbolName_1: CPOL-US; DeviceName: E55-25AXIAL; LibraryName: adafruit; DeviceSetName: CPOL-US; Package: E55-25
footprint E55-25
pins: +, -

## CPOL-USE55-30AXIAL
designator C?, comment POLARIZED CAPACITOR, American symbol
GateName_1: G$1; SymbolName_1: CPOL-US; DeviceName: E55-30AXIAL; LibraryName: adafruit; DeviceSetName: CPOL-US; Package: E55-30
footprint E55-30
pins: +, -

## CPOL-USE/7260-38R
designator C?, comment POLARIZED CAPACITOR, American symbol
GateName_1: G$1; SymbolName_1: CPOL-US; DeviceName: E/7260-38R; LibraryName: adafruit; DeviceSetName: CPOL-US; Package: E/7260-38R
footprint E/7260-38R
pins: +, -

## CPOL-USE/7260-38W
designator C?, comment POLARIZED CAPACITOR, American symbol
GateName_1: G$1; SymbolName_1: CPOL-US; DeviceName: E/7260-38W; LibraryName: adafruit; DeviceSetName: CPOL-US; Package: E/7260-38W
footprint E/7260-38W
pins: +, -

## CPOL-USETR1
designator C?, comment POLARIZED CAPACITOR, American symbol
GateName_1: G$1; SymbolName_1: CPOL-US; DeviceName: ETR1; LibraryName: adafruit; DeviceSetName: CPOL-US; Package: ETR1
footprint ETR1
pins: +, -

## CPOL-USETR2
designator C?, comment POLARIZED CAPACITOR, American symbol
GateName_1: G$1; SymbolName_1: CPOL-US; DeviceName: ETR2; LibraryName: adafruit; DeviceSetName: CPOL-US; Package: ETR2
footprint ETR2
pins: +, -

## CPOL-USETR3
designator C?, comment POLARIZED CAPACITOR, American symbol
GateName_1: G$1; SymbolName_1: CPOL-US; DeviceName: ETR3; LibraryName: adafruit; DeviceSetName: CPOL-US; Package: ETR3
footprint ETR3
pins: +, -

## CPOL-USETR4
designator C?, comment POLARIZED CAPACITOR, American symbol
GateName_1: G$1; SymbolName_1: CPOL-US; DeviceName: ETR4; LibraryName: adafruit; DeviceSetName: CPOL-US; Package: ETR4
footprint ETR4
pins: +, -

## CPOL-USETR5
designator C?, comment POLARIZED CAPACITOR, American symbol
GateName_1: G$1; SymbolName_1: CPOL-US; DeviceName: ETR5; LibraryName: adafruit; DeviceSetName: CPOL-US; Package: ETR5
footprint ETR5
pins: +, -

## CPOL-USF
designator C?, comment POLARIZED CAPACITOR, American symbol
GateName_1: G$1; SymbolName_1: CPOL-US; DeviceName: F; LibraryName: adafruit; DeviceSetName: CPOL-US; Package: PANASONIC_F
footprint PANASONIC_F
pins: +, -

## CPOL-USG
designator C?, comment POLARIZED CAPACITOR, American symbol
GateName_1: G$1; SymbolName_1: CPOL-US; DeviceName: G; LibraryName: adafruit; DeviceSetName: CPOL-US; Package: PANASONIC_G
footprint PANASONIC_G
pins: +, -

## CPOL-USP128-35
designator C?, comment POLARIZED CAPACITOR, American symbol
GateName_1: G$1; SymbolName_1: CPOL-US; DeviceName: P128-35; LibraryName: adafruit; DeviceSetName: CPOL-US; Package: P128-35
footprint P128-35
pins: +, -

## CPOL-USP128-40
designator C?, comment POLARIZED CAPACITOR, American symbol
GateName_1: G$1; SymbolName_1: CPOL-US; DeviceName: P128-40; LibraryName: adafruit; DeviceSetName: CPOL-US; Package: P128-40
footprint P128-40
pins: +, -

## CPOL-USP128-50
designator C?, comment POLARIZED CAPACITOR, American symbol
GateName_1: G$1; SymbolName_1: CPOL-US; DeviceName: P128-50; LibraryName: adafruit; DeviceSetName: CPOL-US; Package: P128-50
footprint P128-50
pins: +, -

## CPOL-USP128-60
designator C?, comment POLARIZED CAPACITOR, American symbol
GateName_1: G$1; SymbolName_1: CPOL-US; DeviceName: P128-60; LibraryName: adafruit; DeviceSetName: CPOL-US; Package: P128-60
footprint P128-60
pins: +, -

## CPOL-USR/2012-12R
designator C?, comment POLARIZED CAPACITOR, American symbol
GateName_1: G$1; SymbolName_1: CPOL-US; DeviceName: R/2012-12R; LibraryName: adafruit; DeviceSetName: CPOL-US; Package: R/2012-12R
footprint R/2012-12R
pins: +, -

## CPOL-USR/2012-12W
designator C?, comment POLARIZED CAPACITOR, American symbol
GateName_1: G$1; SymbolName_1: CPOL-US; DeviceName: R/2012-12W; LibraryName: adafruit; DeviceSetName: CPOL-US; Package: R/2012-12W
footprint R/2012-12W
pins: +, -

## CPOL-USTAP5-45
designator C?, comment POLARIZED CAPACITOR, American symbol
GateName_1: G$1; SymbolName_1: CPOL-US; DeviceName: TAP5-45; LibraryName: adafruit; DeviceSetName: CPOL-US; Package: TAP5-45
footprint TAP5-45
pins: +, -

## CPOL-USTAP5-50
designator C?, comment POLARIZED CAPACITOR, American symbol
GateName_1: G$1; SymbolName_1: CPOL-US; DeviceName: TAP5-50; LibraryName: adafruit; DeviceSetName: CPOL-US; Package: TAP5-50
footprint TAP5-50
pins: +, -

## CPOL-USTAP5-60
designator C?, comment POLARIZED CAPACITOR, American symbol
GateName_1: G$1; SymbolName_1: CPOL-US; DeviceName: TAP5-60; LibraryName: adafruit; DeviceSetName: CPOL-US; Package: TAP5-60
footprint TAP5-60
pins: +, -

## CPOL-USTAP5-70
designator C?, comment POLARIZED CAPACITOR, American symbol
GateName_1: G$1; SymbolName_1: CPOL-US; DeviceName: TAP5-70; LibraryName: adafruit; DeviceSetName: CPOL-US; Package: TAP5-70
footprint TAP5-70
pins: +, -

## CPOL-USTAP5-80
designator C?, comment POLARIZED CAPACITOR, American symbol
GateName_1: G$1; SymbolName_1: CPOL-US; DeviceName: TAP5-80; LibraryName: adafruit; DeviceSetName: CPOL-US; Package: TAP5-80
footprint TAP5-80
pins: +, -

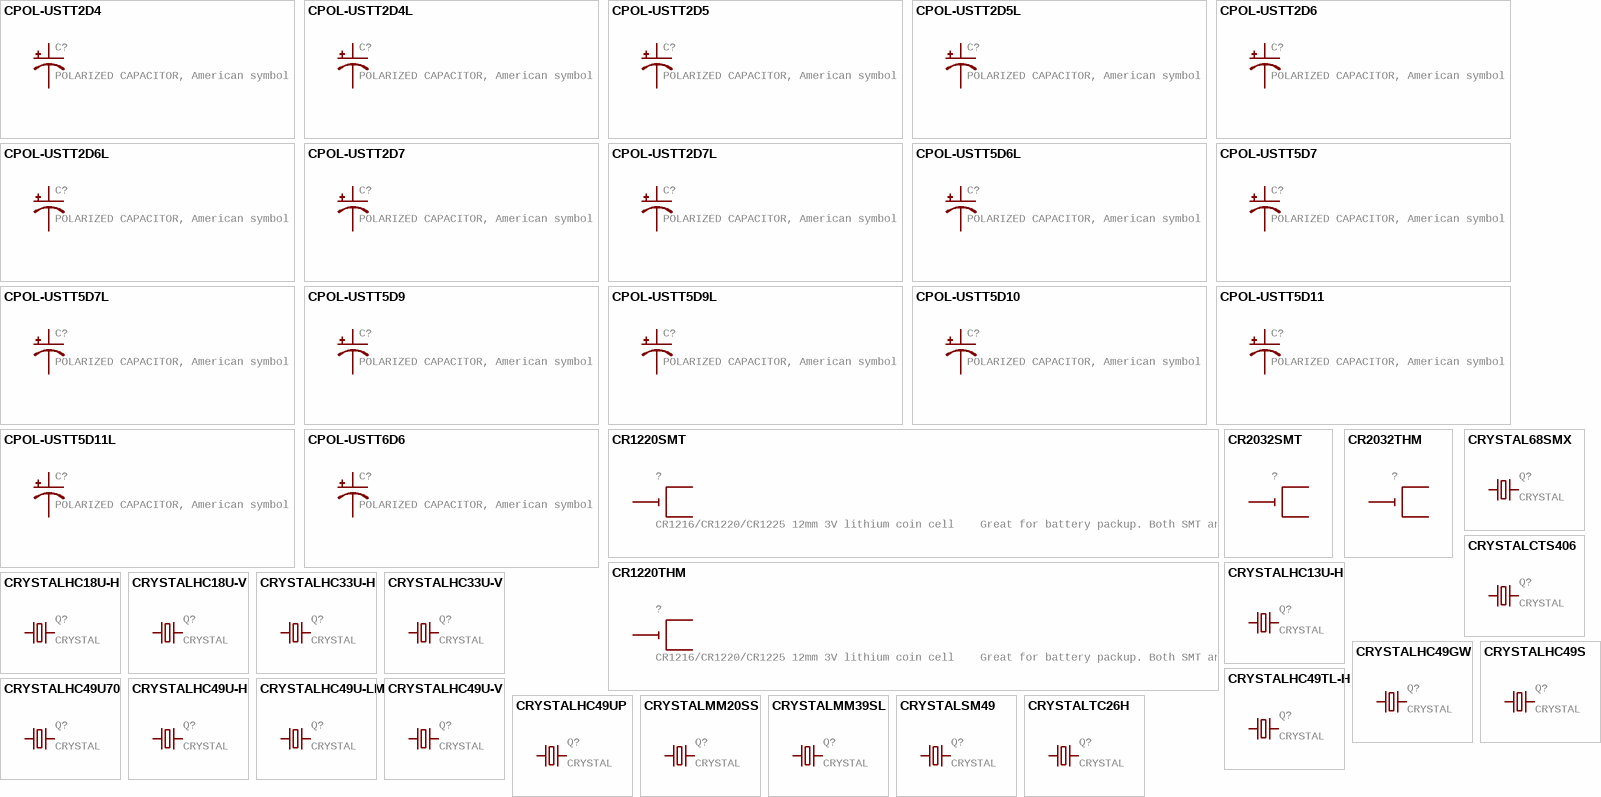
[diagram p13: symbols CPOL-USTT2D4 to CRYSTALTC26H]

## CPOL-USTT2D4
designator C?, comment POLARIZED CAPACITOR, American symbol
GateName_1: G$1; SymbolName_1: CPOL-US; DeviceName: TT2D4; LibraryName: adafruit; DeviceSetName: CPOL-US; Package: TT2D4
footprint TT2D4
pins: +, -

## CPOL-USTT2D4L
designator C?, comment POLARIZED CAPACITOR, American symbol
GateName_1: G$1; SymbolName_1: CPOL-US; DeviceName: TT2D4L; LibraryName: adafruit; DeviceSetName: CPOL-US; Package: TT2D4L
footprint TT2D4L
pins: +, -

## CPOL-USTT2D5
designator C?, comment POLARIZED CAPACITOR, American symbol
GateName_1: G$1; SymbolName_1: CPOL-US; DeviceName: TT2D5; LibraryName: adafruit; DeviceSetName: CPOL-US; Package: TT2D5
footprint TT2D5
pins: +, -

## CPOL-USTT2D5L
designator C?, comment POLARIZED CAPACITOR, American symbol
GateName_1: G$1; SymbolName_1: CPOL-US; DeviceName: TT2D5L; LibraryName: adafruit; DeviceSetName: CPOL-US; Package: TT2D5L
footprint TT2D5L
pins: +, -

## CPOL-USTT2D6
designator C?, comment POLARIZED CAPACITOR, American symbol
GateName_1: G$1; SymbolName_1: CPOL-US; DeviceName: TT2D6; LibraryName: adafruit; DeviceSetName: CPOL-US; Package: TT2D6
footprint TT2D6
pins: +, -

## CPOL-USTT2D6L
designator C?, comment POLARIZED CAPACITOR, American symbol
GateName_1: G$1; SymbolName_1: CPOL-US; DeviceName: TT2D6L; LibraryName: adafruit; DeviceSetName: CPOL-US; Package: TT2D6L
footprint TT2D6L
pins: +, -

## CPOL-USTT2D7
designator C?, comment POLARIZED CAPACITOR, American symbol
GateName_1: G$1; SymbolName_1: CPOL-US; DeviceName: TT2D7; LibraryName: adafruit; DeviceSetName: CPOL-US; Package: TT2D7
footprint TT2D7
pins: +, -

## CPOL-USTT2D7L
designator C?, comment POLARIZED CAPACITOR, American symbol
GateName_1: G$1; SymbolName_1: CPOL-US; DeviceName: TT2D7L; LibraryName: adafruit; DeviceSetName: CPOL-US; Package: TT2D7L
footprint TT2D7L
pins: +, -

## CPOL-USTT5D6L
designator C?, comment POLARIZED CAPACITOR, American symbol
GateName_1: G$1; SymbolName_1: CPOL-US; DeviceName: TT5D6L; LibraryName: adafruit; DeviceSetName: CPOL-US; Package: TT5D6L
footprint TT5D6L
pins: +, -

## CPOL-USTT5D7
designator C?, comment POLARIZED CAPACITOR, American symbol
GateName_1: G$1; SymbolName_1: CPOL-US; DeviceName: TT5D7; LibraryName: adafruit; DeviceSetName: CPOL-US; Package: TT5D7
footprint TT5D7
pins: +, -

## CPOL-USTT5D7L
designator C?, comment POLARIZED CAPACITOR, American symbol
GateName_1: G$1; SymbolName_1: CPOL-US; DeviceName: TT5D7L; LibraryName: adafruit; DeviceSetName: CPOL-US; Package: TT5D7L
footprint TT5D7L
pins: +, -

## CPOL-USTT5D9
designator C?, comment POLARIZED CAPACITOR, American symbol
GateName_1: G$1; SymbolName_1: CPOL-US; DeviceName: TT5D9; LibraryName: adafruit; DeviceSetName: CPOL-US; Package: TT5D9
footprint TT5D9
pins: +, -

## CPOL-USTT5D9L
designator C?, comment POLARIZED CAPACITOR, American symbol
GateName_1: G$1; SymbolName_1: CPOL-US; DeviceName: TT5D9L; LibraryName: adafruit; DeviceSetName: CPOL-US; Package: TT5D9L
footprint TT5D9L
pins: +, -

## CPOL-USTT5D10
designator C?, comment POLARIZED CAPACITOR, American symbol
GateName_1: G$1; SymbolName_1: CPOL-US; DeviceName: TT5D10; LibraryName: adafruit; DeviceSetName: CPOL-US; Package: TT5D10
footprint TT5D10
pins: +, -

## CPOL-USTT5D11
designator C?, comment POLARIZED CAPACITOR, American symbol
GateName_1: G$1; SymbolName_1: CPOL-US; DeviceName: TT5D11; LibraryName: adafruit; DeviceSetName: CPOL-US; Package: TT5D11
footprint TT5D11
pins: +, -

## CPOL-USTT5D11L
designator C?, comment POLARIZED CAPACITOR, American symbol
GateName_1: G$1; SymbolName_1: CPOL-US; DeviceName: TT5D11L; LibraryName: adafruit; DeviceSetName: CPOL-US; Package: TT5D11L
footprint TT5D11L
pins: +, -

## CPOL-USTT6D6
designator C?, comment POLARIZED CAPACITOR, American symbol
GateName_1: G$1; SymbolName_1: CPOL-US; DeviceName: TT6D6; LibraryName: adafruit; DeviceSetName: CPOL-US; Package: TT5D6
footprint TT5D6
pins: +, -

## CR1220SMT
designator ?, comment CR1216/CR1220/CR1225 12mm 3V lithium coin cell    Great for battery packup. Both SMT and THM holders.  Note the THM package has the ground pads on both sides of the PCB so that the masks are the same - this reduces the cost
GateName_1: G$1; DeviceSetName: CR1220; SymbolName_1: 3V; DeviceName: SMT; LibraryName: adafruit; Package: CR1220-SMD
footprint CR1220-SMD
pins: +$1 +, +$2 +1, -

## CR1220THM
designator ?, comment CR1216/CR1220/CR1225 12mm 3V lithium coin cell    Great for battery packup. Both SMT and THM holders.  Note the THM package has the ground pads on both sides of the PCB so that the masks are the same - this reduces the cost
GateName_1: G$1; DeviceSetName: CR1220; SymbolName_1: 3V; DeviceName: THM; LibraryName: adafruit; Package: CR1220-THM
footprint CR1220-THM
pins: +1 +, +2 +1, -

## CR2032SMT
designator ?
GateName_1: G$1; SymbolName_1: 3V; DeviceName: SMT; DeviceSetName: CR2032; LibraryName: adafruit; Package: CR2032-SMD
footprint CR2032-SMD
pins: +$1 +, +$2 +1, -

## CR2032THM
designator ?
GateName_1: G$1; SymbolName_1: 3V; DeviceName: THM; DeviceSetName: CR2032; LibraryName: adafruit; Package: CR2032-THRU
footprint CR2032-THRU
pins: +1 +, +2 +1, -

## CRYSTAL68SMX
designator Q?, comment CRYSTAL
GateName_1: G$1; SymbolName_1: Q; DeviceName: 68SMX; LibraryName: adafruit; DeviceSetName: CRYSTAL; Package: 86SMX; OC_FARNELL: 6344860; OC_NEWARK: unknown
footprint 86SMX
pins: 1, 4 2

## CRYSTALCTS406
designator Q?, comment CRYSTAL
GateName_1: G$1; SymbolName_1: Q; DeviceName: CTS406; LibraryName: adafruit; DeviceSetName: CRYSTAL; Package: CTS406; OC_FARNELL: unknown; OC_NEWARK: unknown
footprint CTS406
pins: 1, 3 2

## CRYSTALHC13U-H
designator Q?, comment CRYSTAL
GateName_1: G$1; SymbolName_1: Q; DeviceName: HC13U-H; LibraryName: adafruit; DeviceSetName: CRYSTAL; Package: HC13U-H; OC_FARNELL: unknown; OC_NEWARK: unknown
footprint HC13U-H
pins: 1, 2

## CRYSTALHC18U-H
designator Q?, comment CRYSTAL
GateName_1: G$1; SymbolName_1: Q; DeviceName: HC18U-H; LibraryName: adafruit; DeviceSetName: CRYSTAL; Package: HC18U-H; OC_FARNELL: unknown; OC_NEWARK: unknown
footprint HC18U-H
pins: 1, 2

## CRYSTALHC18U-V
designator Q?, comment CRYSTAL
GateName_1: G$1; SymbolName_1: Q; DeviceName: HC18U-V; LibraryName: adafruit; DeviceSetName: CRYSTAL; Package: HC18U-V; OC_FARNELL: unknown; OC_NEWARK: unknown
footprint HC18U-V
pins: 1, 2

## CRYSTALHC33U-H
designator Q?, comment CRYSTAL
GateName_1: G$1; SymbolName_1: Q; DeviceName: HC33U-H; LibraryName: adafruit; DeviceSetName: CRYSTAL; Package: HC33U-H; OC_FARNELL: unknown; OC_NEWARK: unknown
footprint HC33U-H
pins: 1, 2

## CRYSTALHC33U-V
designator Q?, comment CRYSTAL
GateName_1: G$1; SymbolName_1: Q; DeviceName: HC33U-V; LibraryName: adafruit; DeviceSetName: CRYSTAL; Package: HC33U-V; OC_FARNELL: unknown; OC_NEWARK: unknown
footprint HC33U-V
pins: 1, 2

## CRYSTALHC49GW
designator Q?, comment CRYSTAL
GateName_1: G$1; SymbolName_1: Q; DeviceName: HC49GW; LibraryName: adafruit; DeviceSetName: CRYSTAL; Package: HC49GW; OC_FARNELL: unknown; OC_NEWARK: unknown
footprint HC49GW
pins: 1, 2

## CRYSTALHC49S
designator Q?, comment CRYSTAL
GateName_1: G$1; SymbolName_1: Q; DeviceName: HC49S; LibraryName: adafruit; DeviceSetName: CRYSTAL; Package: HC49/S; OC_FARNELL: 1667008; OC_NEWARK: unknown
footprint HC49/S
pins: 1, 2

## CRYSTALHC49TL-H
designator Q?, comment CRYSTAL
GateName_1: G$1; SymbolName_1: Q; DeviceName: HC49TL-H; LibraryName: adafruit; DeviceSetName: CRYSTAL; Package: HC49TL-H; OC_FARNELL: unknown; OC_NEWARK: unknown
footprint HC49TL-H
pins: 1, 2

## CRYSTALHC49U70
designator Q?, comment CRYSTAL
GateName_1: G$1; SymbolName_1: Q; DeviceName: HC49U70; LibraryName: adafruit; DeviceSetName: CRYSTAL; Package: HC49U70; OC_FARNELL: unknown; OC_NEWARK: unknown
footprint HC49U70
pins: 1, 2

## CRYSTALHC49U-H
designator Q?, comment CRYSTAL
GateName_1: G$1; SymbolName_1: Q; DeviceName: HC49U-H; LibraryName: adafruit; DeviceSetName: CRYSTAL; Package: HC49U-H; OC_FARNELL: 1666973; OC_NEWARK: unknown
footprint HC49U-H
pins: 1, 2

## CRYSTALHC49U-LM
designator Q?, comment CRYSTAL
GateName_1: G$1; SymbolName_1: Q; DeviceName: HC49U-LM; LibraryName: adafruit; DeviceSetName: CRYSTAL; Package: HC49U-LM; OC_FARNELL: 1666956; OC_NEWARK: unknown
footprint HC49U-LM
pins: 1, 2

## CRYSTALHC49U-V
designator Q?, comment CRYSTAL
GateName_1: G$1; SymbolName_1: Q; DeviceName: HC49U-V; LibraryName: adafruit; DeviceSetName: CRYSTAL; Package: HC49U-V; OC_FARNELL: 1666969; OC_NEWARK: unknown
footprint HC49U-V
pins: 1, 2

## CRYSTALHC49UP
designator Q?, comment CRYSTAL
GateName_1: G$1; SymbolName_1: Q; DeviceName: HC49UP; LibraryName: adafruit; DeviceSetName: CRYSTAL; Package: HC49UP; OC_FARNELL: unknown; OC_NEWARK: unknown
footprint HC49UP
pins: 1, 2

## CRYSTALMM20SS
designator Q?, comment CRYSTAL
GateName_1: G$1; SymbolName_1: Q; DeviceName: MM20SS; LibraryName: adafruit; DeviceSetName: CRYSTAL; Package: MM20SS; OC_FARNELL: unknown; OC_NEWARK: unknown
footprint MM20SS
pins: 1, 4 2

## CRYSTALMM39SL
designator Q?, comment CRYSTAL
GateName_1: G$1; SymbolName_1: Q; DeviceName: MM39SL; LibraryName: adafruit; DeviceSetName: CRYSTAL; Package: MM39SL; OC_FARNELL: unknown; OC_NEWARK: unknown
footprint MM39SL
pins: 1, 4 2